# EAGLE library part 75869-06 (library con-fci-quickie)
HEADER
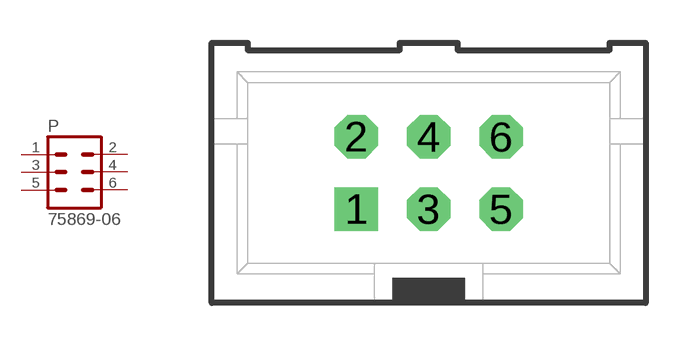
[diagram p0: symbol with the pads of 75869-06; footprint 75869-06]

Designator prefix P

## 75869-06  [75869-06]
1  1  pas
2  2  pas
3  3  pas
4  4  pas
5  5  pas
6  6  pas

## Footprint 75869-06 (pad centres in mm)
HEADER
drill 1.016 square: 1 -2.54,-1.27
drill 1.016 octagon: 2 -2.54,1.27; 3 0,-1.27; 4 0,1.27; 5 2.54,-1.27; 6 2.54,1.27